# EAGLE library part ARJC02-111008B (library Connectors)
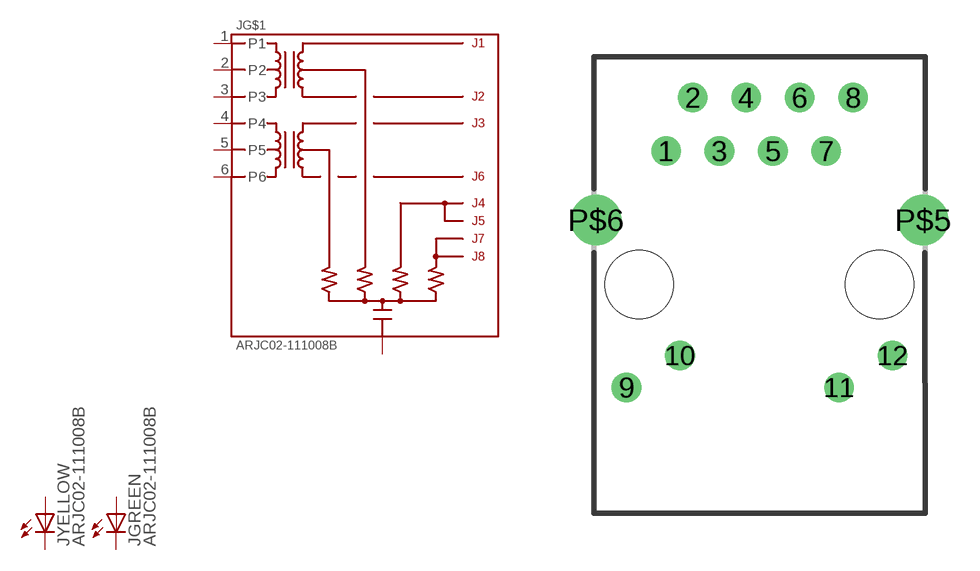
[diagram p26: symbol with the pads of ETHERNET; footprint ETHERNET]

Designator prefix J; gates G$1=ARJC02-111008B YELLOW=LED GREEN=LED

## ARJC02-111008B  [ETHERNET]
1  G$1:P1
2  G$1:P2
3  G$1:P3
4  G$1:P4
5  G$1:P5
6  G$1:P6
8  G$1:P8
9  YELLOW:A  pas
10  YELLOW:C  pas
11  GREEN:A  pas
12  GREEN:C  pas
P$5  G$1:P8
P$6  G$1:P8

## Footprint ETHERNET (pad centres in mm)
drill 0.9: 1 -4.445,6.37; 2 -3.175,8.91; 3 -1.905,6.37; 4 -0.635,8.91; 5 0.635,6.37; 6 1.905,8.91; 7 3.175,6.37; 8 4.445,8.91; 9 -6.325,-4.87; 10 -3.785,-3.35; 11 3.785,-4.87; 12 6.325,-3.35
drill 1.6: P$5 7.775,3.08; P$6 -7.775,3.08
hole 3.25 at 5.715,0.03
hole 3.25 at -5.715,0.03